# EAGLE library part GE865 (library X893)
Telit GE865 modem
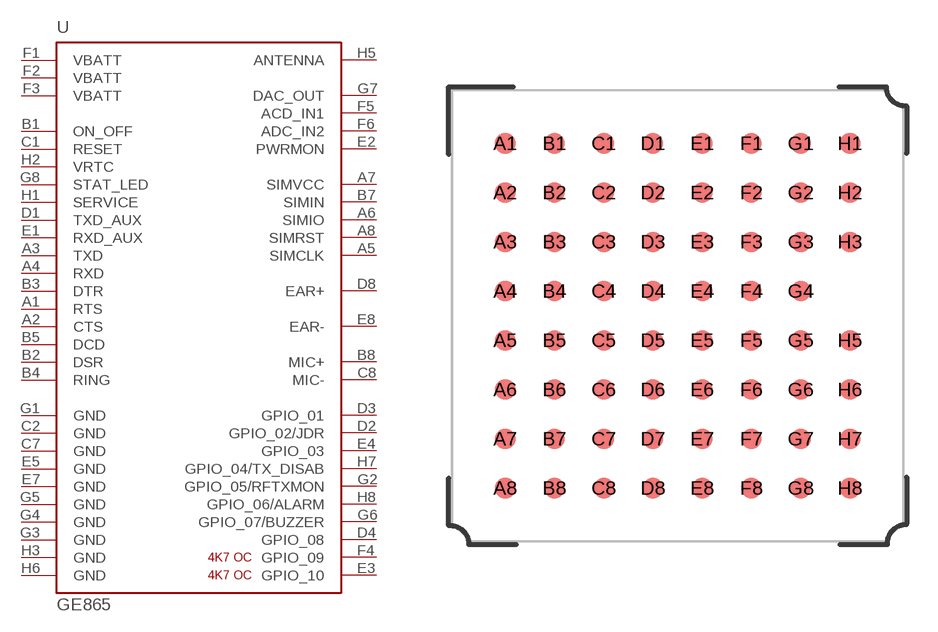
[diagram p17: symbol with the pads of GE865; footprint GE865]

Designator prefix U

## GE865  [GE865]
A1  RTS  in
A2  CTS  out
A3  TXD  in
A4  RXD  out
A5  SIMCLK  out
A6  SIMIO
A7  SIMVCC  pas
A8  SIMRST  out
B1  ON_OFF  in
B2  DSR  out
B3  DTR  in
B4  RING  out
B5  DCD  out
B7  SIMIN  in
B8  MIC+  pas
C1  RESET  in
C2  GND  pwr
C7  GND  pwr
C8  MIC-  pas
D1  TXD_AUX
D2  GPIO_02/JDR
D3  GPIO_01
D4  GPIO_08
D8  EAR+  pas
E1  RXD_AUX
E2  PWRMON  pas
E3  GPIO_10  oc
E4  GPIO_03
E5  GND  pwr
E7  GND  pwr
E8  EAR-  pas
F1  VBATT  pwr
F2  VBATT  pwr
F3  VBATT  pwr
F4  GPIO_09  oc
F5  ACD_IN1  pas
F6  ADC_IN2  pas
G1  GND  pwr
G2  GPIO_05/RFTXMON
G3  GND  pwr
G4  GND  pwr
G5  GND  pwr
G6  GPIO_07/BUZZER
G7  DAC_OUT  pas
G8  STAT_LED  out
H1  SERVICE  in
H2  VRTC
H3  GND  pwr
H5  ANTENNA  pas
H6  GND  pwr
H7  GPIO_04/TX_DISAB
H8  GPIO_06/ALARM

## Footprint GE865 (pad centres in mm)
smd 1 x 1: A1 -8.4,8.4; A2 -8.4,6; A3 -8.4,3.6; A4 -8.4,1.2; A5 -8.4,-1.2; A6 -8.4,-3.6; A7 -8.4,-6; A8 -8.4,-8.4; B1 -6,8.4; B2 -6,6; B3 -6,3.6; B4 -6,1.2; B5 -6,-1.2; B6 -6,-3.6; B7 -6,-6; B8 -6,-8.4; C1 -3.6,8.4; C2 -3.6,6; C3 -3.6,3.6; C4 -3.6,1.2; C5 -3.6,-1.2; C6 -3.6,-3.6; C7 -3.6,-6; C8 -3.6,-8.4; D1 -1.2,8.4; D2 -1.2,6; D3 -1.2,3.6; D4 -1.2,1.2; D5 -1.2,-1.2; D6 -1.2,-3.6; D7 -1.2,-6; D8 -1.2,-8.4; E1 1.2,8.4; E2 1.2,6; E3 1.2,3.6; E4 1.2,1.2; E5 1.2,-1.2; E6 1.2,-3.6; E7 1.2,-6; E8 1.2,-8.4; F1 3.6,8.4; F2 3.6,6; F3 3.6,3.6; F4 3.6,1.2; F5 3.6,-1.2; F6 3.6,-3.6; F7 3.6,-6; F8 3.6,-8.4; G1 6,8.4; G2 6,6; G3 6,3.6; G4 6,1.2; G5 6,-1.2; G6 6,-3.6; G7 6,-6; G8 6,-8.4; H1 8.4,8.4; H2 8.4,6; H3 8.4,3.6; H5 8.4,-1.2; H6 8.4,-3.6; H7 8.4,-6; H8 8.4,-8.4